# Altium schematic symbol library SCH - CONNECTORS - SAMTEC - TSW-115-07-G-D.SchLib: 1 symbol
Pins are listed as number, name and electrical type; pins without a type are passive.

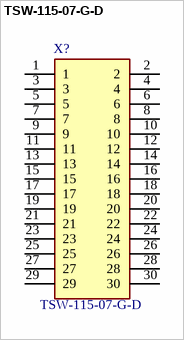
[diagram p0: symbol TSW-115-07-G-D]

## TSW-115-07-G-D
designator X?
30 Position, Classic PCB Header Strips, 0.100&quot; pitch; Manufacturer_Name: SAMTEC; Mouser Part Number: 200-TSW11507GD; Mouser Price/Stock: https://www.mouser.co.uk/ProductDetail/Samtec/TSW-115-07-G-D?qs=rU5fayqh%252BE0Fz7QdY5Xmuw%3D%3D; Manufacturer_Part_Number: TSW-115-07-G-D; Datasheet Link: http://suddendocs.samtec.com/prints/tsw-xxx-xx-xxx-x-xx-xxx-mkt.pdf
footprint TSW-115-XX-YY-D
pins: 1, 2, 3, 4, 5, 6, 7, 8, 9, 10, 11, 12, 13, 14, 15, 16, 17, 18, 19, 20, 21, 22, 23, 24, 25, 26, 27, 28, 29, 30